# EAGLE library part MB85RC64PNF-G-JNE1 (library Fujitsu_By_element14_Batch_1)
Memory FRAM
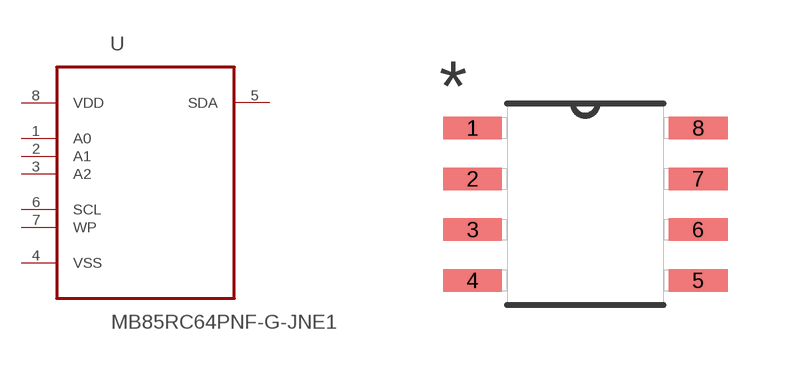
[diagram p1: symbol with the pads of SOIC127P600X175-8N; footprint SOIC127P600X175-8N]

Designator prefix U

## MB85RC64PNF-G-JNE1 (MPN: MB85RC64PNF-G-JNE1; OC_FARNELL: 1831994; OC_NEWARK: 93R5162; PACKAGE: SO-8; SUPPLIER: FUJITSU)  [SOIC127P600X175-8N]
1  A0  in
2  A1  in
3  A2  in
4  VSS  pas
5  SDA
6  SCL  in
7  WP  in
8  VDD  pwr

## Footprint SOIC127P600X175-8N (pad centres in mm)
smd 1.473 x 0.559: 1 -2.819,1.905; 2 -2.819,0.635; 3 -2.819,-0.635; 4 -2.819,-1.905; 5 2.819,-1.905; 6 2.819,-0.635; 7 2.819,0.635; 8 2.819,1.905